# Altium schematic symbol library iv_transistors.SchLib: 16 symbols
Pins are listed as number, name and electrical type; pins without a type are passive.

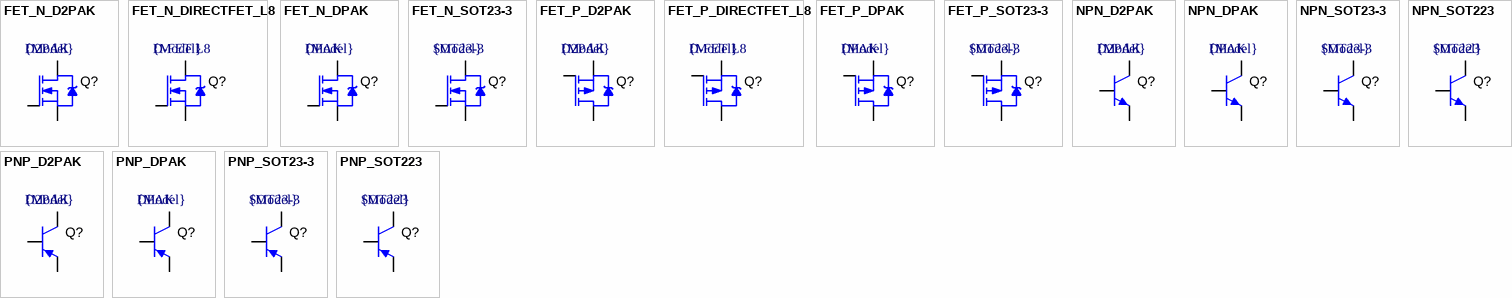
[diagram p0: symbols FET_N_D2PAK to PNP_SOT223]

## FET_N_D2PAK
designator Q?, comment Case: D2PAK  (hidden comment: {Model})
MOSFET SMD N-CH D2PAK; Model: {Model}
pins: 1 G, 2 S, 3 D

## FET_N_DIRECTFET_L8
designator Q?, comment Case: D-FET L8  (hidden comment: {Model})
MOSFET SMD N-CH DirectFET L8; Model: {Model}
footprint DIRECTFET-L8-L (DirectFET L8, Body 9,10x7,00mm (avg), IPC High Density)
pins: 1 G, 2 S, 3 D

## FET_N_DPAK
designator Q?, comment Case: DPAK  (hidden comment: {Model})
MOSFET SMD N-CH DPAK; Model: {Model}
pins: 1 G, 2 S, 3 D

## FET_N_SOT23-3
designator Q?, comment Case: SOT23-3  (hidden comment: {Model})
MOSFET SMD N-CH SOT23-3; Model: {Model}
footprint SOT95P248X115-3L (SOT23, 3-Leads, Body 2,95x2,48mm, Pitch 0,95mm, IPC High Density)
footprint SOT95P248X115-3N (SOT23, 3-Leads, Body 2,95x2,48mm, Pitch 0,95mm, IPC Medium Density)
footprint SOT95P248X115-3M (SOT23, 3-Leads, Body 2,95x2,48mm, Pitch 0,95mm, IPC Low Density)
pins: 1 G, 2 S, 3 D

## FET_P_D2PAK
designator Q?, comment Case: D2PAK  (hidden comment: {Model})
MOSFET SMD P-CH D2PAK; Model: {Model}
pins: 1 G, 2 S, 3 D

## FET_P_DIRECTFET_L8
designator Q?, comment Case: D-FET L8  (hidden comment: {Model})
MOSFET SMD P-CH DirectFET L8; Model: {Model}
footprint DIRECTFET-L8-L (DirectFET L8, Body 9,10x7,00mm (avg), IPC High Density)
pins: 1 G, 2 S, 3 D

## FET_P_DPAK
designator Q?, comment Case: DPAK  (hidden comment: {Model})
MOSFET SMD P-CH DPAK; Model: {Model}
pins: 1 G, 2 S, 3 D

## FET_P_SOT23-3
designator Q?, comment Case: SOT23-3  (hidden comment: {Model})
MOSFET SMD P-CH SOT23-3; Model: {Model}
footprint SOT95P248X115-3L (SOT23, 3-Leads, Body 2,95x2,48mm, Pitch 0,95mm, IPC High Density)
footprint SOT95P248X115-3N (SOT23, 3-Leads, Body 2,95x2,48mm, Pitch 0,95mm, IPC Medium Density)
footprint SOT95P248X115-3M (SOT23, 3-Leads, Body 2,95x2,48mm, Pitch 0,95mm, IPC Low Density)
pins: 1 G, 2 S, 3 D

## NPN_D2PAK
designator Q?, comment Case: D2PAK  (hidden comment: {Model})
Transistor SMD NPN D2PAK; Model: {Model}
pins: 1 B, 2 E, 3 C

## NPN_DPAK
designator Q?, comment Case: DPAK  (hidden comment: {Model})
Transistor SMD NPN DPAK; Model: {Model}
pins: 1 B, 2 E, 3 C

## NPN_SOT23-3
designator Q?, comment Case: SOT23-3  (hidden comment: {Model})
Transistor SMD NPN SOT-23; Model: {Model}
footprint SOT95P248X115-3L (SOT23, 3-Leads, Body 2,95x2,48mm, Pitch 0,95mm, IPC High Density)
footprint SOT95P248X115-3N (SOT23, 3-Leads, Body 2,95x2,48mm, Pitch 0,95mm, IPC Medium Density)
footprint SOT95P248X115-3M (SOT23, 3-Leads, Body 2,95x2,48mm, Pitch 0,95mm, IPC Low Density)
pins: 1 B, 2 E, 3 C

## NPN_SOT223
designator Q?, comment Case: SOT223  (hidden comment: {Model})
Transistor SMD NPN SOT-223; Model: {Model}
footprint SOT230P700X180-4L (SOT223, 4-Leads, Body 6,50x7,00mm (avg), Pitch 2,30mm, IPC High Density)
footprint SOT230P700X180-4M (SOT223, 4-Leads, Body 6,50x7,00mm (avg), Pitch 2,30mm, IPC Low Density)
footprint SOT230P700X180-4N (SOT223, 4-Leads, Body 6,50x7,00mm (avg), Pitch 2,30mm, IPC Medium Density)
pins: 1 B, 2 C, 3 E, 4 C

## PNP_D2PAK
designator Q?, comment Case: D2PAK  (hidden comment: {Model})
Transistor SMD PNP D2PAK; Model: {Model}
pins: 1 B, 2 E, 3 C

## PNP_DPAK
designator Q?, comment Case: DPAK  (hidden comment: {Model})
Transistor SMD PNP DPAK; Model: {Model}
pins: 1 B, 2 E, 3 C

## PNP_SOT23-3
designator Q?, comment Case: SOT23-3  (hidden comment: {Model})
Transistor SMD PNP SOT-23; Model: {Model}
footprint SOT95P248X115-3L (SOT23, 3-Leads, Body 2,95x2,48mm, Pitch 0,95mm, IPC High Density)
footprint SOT95P248X115-3N (SOT23, 3-Leads, Body 2,95x2,48mm, Pitch 0,95mm, IPC Medium Density)
footprint SOT95P248X115-3M (SOT23, 3-Leads, Body 2,95x2,48mm, Pitch 0,95mm, IPC Low Density)
pins: 1 B, 2 E, 3 C

## PNP_SOT223
designator Q?, comment Case: SOT223  (hidden comment: {Model})
Transistor SMD PNP SOT223; Model: {Model}
footprint SOT230P700X180-4L (SOT223, 4-Leads, Body 6,50x7,00mm (avg), Pitch 2,30mm, IPC High Density)
footprint SOT230P700X180-4M (SOT223, 4-Leads, Body 6,50x7,00mm (avg), Pitch 2,30mm, IPC Low Density)
footprint SOT230P700X180-4N (SOT223, 4-Leads, Body 6,50x7,00mm (avg), Pitch 2,30mm, IPC Medium Density)
pins: 1 B, 2 C, 3 E, 4 C